# Altium schematic symbol library SPB_Inductors.SchLib: 13 symbols
Pins are listed as number, name and electrical type; pins without a type are passive.

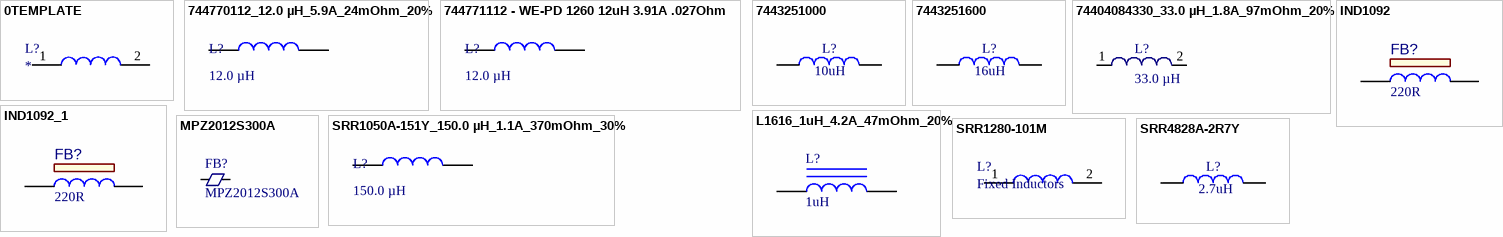
[diagram p0: symbols 0TEMPLATE to SRR4828A-2R7Y]

## 0TEMPLATE
designator L?
Supplier 1: Mouser; Supplier 2: Digi-Key; Supplier Part Number 2: *; Supplier Part Number 1: *; Manufacturer Part Number: *; Mouser Part #: *; Digi-Key Part Number: *; Value: *
pins: 1, 2

## 744770112_12.0 µH_5.9A_24mOhm_20%
designator L?, comment 12.0 µH
SMD-Shielded Power Inductor WE-PD, L =; Manufacturer Part Number: 744770112; Value: 12.0 µH; Digi-Key Part Number: https://www.digikey.com/product-detail/en/wurth-electronics-inc/744770112/732-1224-1-ND/1639285; Mouser Part #: 710-744770112
footprint WE-PD-XL (SMD Inductor, 2-Leads, Body 12.0x12.0x8.0 mm)
pins: 1, 2

## 744771112 - WE-PD 1260 12uH 3.91A .027Ohm
designator L?, comment 12.0 µH
Fixed Inductors WE-PD 1260 12uH 3.91A .027Ohm; Manufacturer Part Number: 744771112; Value: 12.0 µH; Digi-Key Part Number: 732-1209-1-ND; Mouser Part #: 710-744771112
footprint WE-PD-L (SMD Inductor, 2-Leads, Body 12.0x12.0x6.0 mm)
pins: 1, 2

## 7443251000
designator L?  value 10uH
WE-HCI SMD Flat Wire High Current Inductor, size 1050, 7.2A, 10uH; Manufacturer Part Number: 7443251000; Rated Current: 7.2A
footprint WE-HCI_1050_Superflux (SMD Flat Wire High Current Inductor, size 1050)
pins: 1, 2

## 7443251600
designator L?  value 16uH
WE-HCI SMD Flat Wire High Current Inductor, size 1050, 5A, 16uH; Manufacturer Part Number: 7443251600; Rated Current: 5A; Mouser Part #: 710-7443251600; Digi-Key Part Number: 732-4180-1-ND
footprint WE-HCI_1050_Superflux (SMD Flat Wire High Current Inductor, size 1050)
pins: 1, 2

## 74404084330_33.0 µH_1.8A_97mOhm_20%
designator L?, comment 33.0 µH
WE-LQS SMD Power Inductor, L=33.0 µH; Manufacturer part number: 74404084330; Value: 33.0 µH; Mouser Part #: 710-74404084330; Digi-Key Part Number: 732-5571-1-ND
footprint WE-LQS 8040 (SMD Power Inductor, 2-Leads, Body 8.0x8.0mm)
pins: 1, 2

## IND1092
designator FB?, comment value 220R  (hidden comment: Ferrite Bead)
Manufacturer 1: Murata Electronics North America; Manufacturer Part Number 1: BLM21PG221SN1D; Description_: FERRITE 2A 220R SMD 0805; DCR: 0.045R; Revision: B; ComponentLink1URL: https://chn-vm-apps.microchip.com/mchprepo/parts/Datasheets/L0110S0100BLM21P.pdf; ComponentLink1Description: Datasheet; Operating Temperature: -55C to +125C; Package: 0805; Type: Ferrite Bead; Category: Inductor; Supplier 1: Digi-Key; Supplier Part Number 1: 490-1054-1-ND; Supplier 2: Mouser; Supplier Part Number 2: 81-BLM21P221SG
footprint IND_C_0805 (Chip Inductor 2-Leads, Body 2.0x1.0mm, IPC Medium Density)
pins: 1, 2
1 alternate drawing of the same symbol

## IND1092_1
designator FB?, comment value 220R  (hidden comment: Ferrite Bead)
Manufacturer 1: Murata Electronics North America; Manufacturer Part Number 1: BLM21PG221SN1D; Description_: FERRITE 2A 220R SMD 0805; Revision: B; ComponentLink1URL: https://chn-vm-apps.microchip.com/mchprepo/parts/Datasheets/L0110S0100BLM21P.pdf; ComponentLink1Description: Datasheet; Operating Temperature: -55C to +125C; Package: 0805; Category: Inductor; Supplier 1: Digi-Key; Supplier Part Number 1: 490-1054-1-ND; Supplier 2: Mouser; Supplier Part Number 2: 81-BLM21P221SG
footprint IND_C_0805 (Chip Inductor 2-Leads, Body 2.0x1.0mm, IPC Medium Density)
pins: 1, 2
1 alternate drawing of the same symbol

## L1616_1uH_4.2A_47mOhm_20%
designator L?, comment 1uH
1µH Shielded Molded Inductor 4.2A 47 mOhm Max; Manufacturer Part Number: IHLP1616ABER1R0M11; Value: 1uH; Mouser Part #: 70-IHLP1616ABER1R0M1; Digi-Key Part Number: 541-1044-1-ND
footprint IHLP-1616AB-11
pins: 1, 2

## MPZ2012S300A
designator FB?
Ferrite Beads Ferrite Chip Beads; Mouser Part Number: 810-MPZ2012S300A; Manufacturer Part number: MPZ2012S300A; Digi-Key Part Number: 445-1566-1-ND
footprint MPZ2012 (Ferrite Beads Ferrite Chip Beads)
pins: 1, 2

## SRR1050A-151Y_150.0 µH_1.1A_370mOhm_30%
designator L?, comment 150.0 µH
SMD-Shielded Power Inductor WE-PD, L =; Manufacturer Part Number: SRR1050A-151Y; Qualification: AEC-Q200; Value: 150.0 µH; Mouser Part #: 652-SRR1050A-151Y; Application: Automotive
footprint SRR1050A (Fixed Inductors 150uH 30% 1.1A shdSMD AEC-Q200)
pins: 1, 2

## SRR1280-101M
designator L?, comment Fixed Inductors
Fixed Inductors 100uH 20% SMD 1280; Manufacturer Part Number: SRR1280-101M; Supplier 1: Mouser; Supplier 2: Digi-Key; Supplier Part Number 2: SRR1280-101M; Supplier Part Number 1: *; Mouser Part #: 652-SRR1280-101M; Digi-Key Part Number: *; Value: 100uH
footprint INDPM125125X800N
pins: 1, 2

## SRR4828A-2R7Y
designator L?  value 2.7uH
2.7µH Shielded Wirewound Inductor 4A 34 mOhm Max Nonstandard; Manufacturer Part Number: SRR4828A-2R7Y; Mouser Part #: 652-SRR4828A-2R7Y; DigiKey Part Number: SRR4828A-2R7YCT-ND
footprint SRR4828A-2R7Y (2.7µH Shielded Wirewound Inductor 4A 34 mOhm Max Nonstandard)
pins: 1, 2